# Altium schematic symbol library TL431_SOT23.Schlib: 1 symbol
Pins are listed as number, name and electrical type; pins without a type are passive.

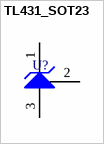
[diagram p0: symbol TL431_SOT23]

## TL431_SOT23
designator U?
three-terminal adjustable precision shunt voltage regulator
footprint SOT-23_N (SOT23, 3-Leads, Body 2.9x1.3mm, Pitch 0.95mm, Lead Span 2.5mm, IPC Medium Density)
pins: 1 K, 2 Ref, 3 A